# EAGLE library part ZXTD4591E6 (library cyclops)
NPN/PNP Gate Driver
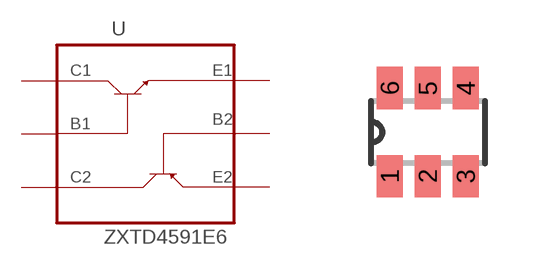
[diagram p10: symbol with the pads of SOT23-6; footprint SOT23-6]

Designator prefix -

## ZXTD4591E6  [SOT23-6]
1  C1
2  B1  in
3  C2
4  E2
5  B2  in
6  E1

## Footprint SOT23-6 (pad centres in mm)
Small Outline Transistor 6 lead
smd 0.65 x 1.06: 1 -0.95,-1.1; 2 0,-1.1; 3 0.95,-1.1; 4 0.95,1.1; 5 0,1.1; 6 -0.95,1.1